# Altium footprint library WR-DC.PcbLib: 12 footprints
Each footprint in its own frame and in the unit in brackets; x right, y up, seen from the top. Pads: shape width x height; smd on the part's side, far side on the other; paste and mask are expansions set on the pad; w line width, h text height; cw(c..) or ccw(c..) is an arc to the next point about the centre after c.
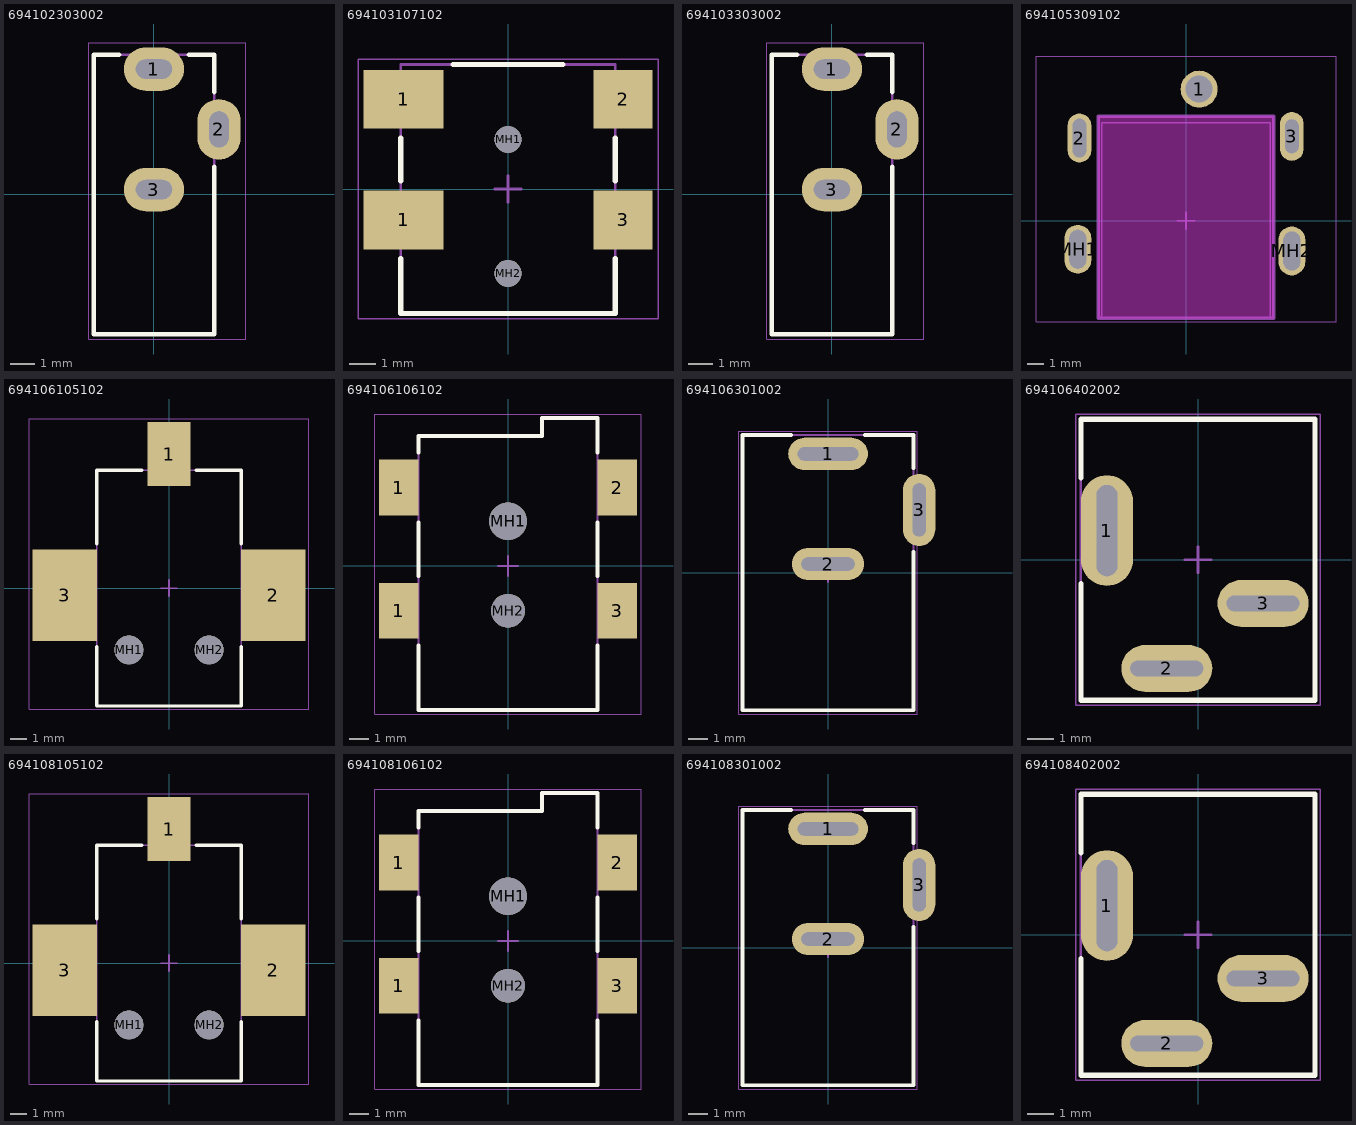
[diagram p0: the footprints below, top view; thin cyan lines are the x and y axes]

## 694102303002 [mm] "DC Power Jack Right Angled THR"
height 7.5
pads (3):
  oval 2.5x1.8 hole 0.8 slot 1.5 at 0 deg: 1(0,5.2) 3(0,0.2)
  oval 1.8x2.5 hole 0.8 slot 1.5 at 90 deg: 2(2.7,2.7)
Top Overlay:
  lines w0.2: -1.45,5.8 -2.5,5.8 -2.5,-5.8 2.5,-5.8 2.5,1.15 ; 1.45,5.8 2.5,5.8 2.5,4.25
Top Assembly:
  lines w0.1: -2.5,-5.8 2.5,-5.8 2.5,5.8 -2.5,5.8 -2.5,-5.8
Top Designator:
  text ".Designator" at -3.647,-0.357 h1
Top 3D Body:
  lines w0.1: -2.5,-5.8 2.5,-5.8 2.5,5.8 -2.5,5.8 -2.5,-5.8
Top Courtyard:
  lines w0.05: -2.7,-6 3.8,-6 3.8,6.3 -2.7,6.3 -2.7,-6
Top Component Center:
  lines w0.1: -0.5,0 0.5,0 ; 0,-0.5 0,0.5
3D body "694102303002.stp": height 7.52, standoff -3.08, extent -2.5,-5.8 2.9,5.8

## 694103107102 [mm] "DC Power Jack Right Angled SMT Low Profile"
height 5.2
pads (6):
  rect 3x2.2 smd: 1(-3.9,-1.15) 1(-3.9,3.35)
  rect 2.2x2.2 smd: 2(4.3,3.35) 3(4.3,-1.15)
  round 1 hole 1 unplated: MH1(0,1.85) MH2(0,-3.15)
Top Overlay:
  lines w0.2: -4,-2.6 -4,-4.65 4,-4.65 4,-2.6 ; -4,0.3 -4,1.9 ; -2.05,4.65 2.05,4.65 ; 4,0.3 4,1.9
Top Assembly:
  lines w0.1: -4,-4.65 -4,4.65 4,4.65 4,-4.65 -4,-4.65
Top Designator:
  text ".Designator" at -3.647,-0.357 h1
Top 3D Body:
  lines w0.1: -4,-4.65 -4,4.65 4,4.65 4,-4.65 -4,-4.65
Top Courtyard:
  lines w0.05: -5.6,-4.85 5.6,-4.85 5.6,4.85 -5.6,4.85 -5.6,-4.85
Top Component Center:
  lines w0.1: -0.5,0 0.5,0 ; 0,-0.5 0,0.5
3D body "694103107102.stp": height 5.22, standoff -0.78, extent -4.95,-4.65 4.95,4.65

## 694103303002 [mm] "DC Power Jack Right Angled THR"
height 7.5
pads (3):
  oval 2.5x1.8 hole 0.8 slot 1.5 at 0 deg: 1(0,5.2) 3(0,0.2)
  oval 1.8x2.5 hole 0.8 slot 1.5 at 90 deg: 2(2.7,2.7)
Top Overlay:
  lines w0.2: -1.45,5.8 -2.5,5.8 -2.5,-5.8 2.5,-5.8 2.5,1.15 ; 1.45,5.8 2.5,5.8 2.5,4.25
Top Assembly:
  lines w0.1: -2.5,-5.8 2.5,-5.8 2.5,5.8 -2.5,5.8 -2.5,-5.8
Top Designator:
  text ".Designator" at -3.647,-0.357 h1
Top 3D Body:
  lines w0.1: -2.5,-5.8 2.5,-5.8 2.5,5.8 -2.5,5.8 -2.5,-5.8
Top Courtyard:
  lines w0.05: -2.7,-6 3.8,-6 3.8,6.3 -2.7,6.3 -2.7,-6
Top Component Center:
  lines w0.1: -0.5,0 0.5,0 ; 0,-0.5 0,0.5
3D body "694103303002.stp": height 7.52, standoff -3.08, extent -2.5,-5.8 2.9,5.8

## 694105309102 [mm] "DC Power Jack Right Angled Shielded THR"
height 9.1
pads (5):
  round 2.2 hole 1.6: 1(0.78,7.8)
  oval 1.4x2.9 hole 0.8 slot 2.3 at 90 deg: 2(-6.32,4.9)
  oval 1.4x2.9 hole 0.8 slot 2 at 90 deg: 3(6.28,5)
  oval 1.6x2.9 hole 1 slot 2.3 at 90 deg: MH1(-6.42,-1.7) MH2(6.28,-1.8)
Top Paste:
  region: 8.66,-5.45 5.36,-5.45 5.36,2.55 8.66,2.55
  region: -8.7,-5.35 -5.4,-5.35 -5.4,2.65 -8.7,2.65
  region: -1.85,9.55 3.55,9.55 3.55,6.55 -1.85,6.55
  region: 8.61,3.3 5.31,3.3 5.31,8.3 8.61,8.3
  region: -8.65,3.1 -5.35,3.1 -5.35,9.5 -8.65,9.5
Keep-Out Layer:
  board cut-out: -5.2,-5.8 -5.2,6.2 5.2,6.2 5.2,-5.8
Board Shape:
  lines w0.2: -5.2,-5.8 -5.2,6.2 5.2,6.2 5.2,-5.8 -5.2,-5.8
Top Assembly:
  lines w0.1: -5,-5.8 -5,5.8 5,5.8 5,-5.8 -5,-5.8
Top Designator:
  text ".Designator" at -3.647,-0.357 h1
Top 3D Body:
  lines w0.1: -5,-5.8 -5,5.8 5,5.8 5,-5.8 -5,-5.8
Top Courtyard:
  lines w0.05: -8.9,-6 -8.9,9.75 8.9,9.75 8.9,-6 -8.9,-6
Top Component Center:
  lines w0.1: -0.5,0 0.5,0 ; 0,-0.5 0,0.5
3D body "694105309102.stp": height 5.55, standoff -3.55, extent -6.45,-5.8 6.55,8.31

## 694106105102 [mm] "DC Power Jack Right Angled SMT"
height 11
pads (5):
  rect 2.7x4 smd: 1(0,8.35)
  rect 4x5.7 smd: 2(6.5,-0.45) 3(-6.5,-0.45)
  round 1.8 hole 1.8 unplated: MH1(-2.5,-3.85) MH2(2.5,-3.85)
Top Overlay:
  lines w0.2: -4.5,-3.65 -4.5,-7.35 4.5,-7.35 4.5,-3.65 ; -4.5,2.75 -4.5,7.35 -1.7,7.35 ; 1.7,7.35 4.5,7.35 4.5,2.75
Top Assembly:
  lines w0.1: -4.5,-7.35 -4.5,7.35 4.5,7.35 4.5,-7.35 -4.5,-7.35
Top Designator:
  text ".Designator" at -3.647,-0.357 h1
Top 3D Body:
  lines w0.1: -4.5,-7.35 -4.5,7.35 4.5,7.35 4.5,-7.35 -4.5,-7.35
Top Courtyard:
  lines w0.05: -8.7,-7.55 -8.7,10.55 8.7,10.55 8.7,-7.55 -8.7,-7.55
Top Component Center:
  lines w0.1: -0.5,0 0.5,0 ; 0,-0.5 0,0.5
3D body "694106105102.stp": height 11.05, standoff -1.95, extent -7.52,-7.375 7.28,9.725

## 694106106102 [mm] "DC Power Jack Right Angled SMT"
height 11
pads (6):
  rect 2x2.8 smd: 1(-5.5,-2.25) 1(-5.5,3.95) 2(5.5,3.95) 3(5.5,-2.25)
  round 1.9 hole 1.9 unplated: MH1(0,2.25)
  round 1.7 hole 1.7 unplated: MH2(0,-2.25)
Top Overlay:
  lines w0.2: -4.5,-4 -4.5,-7.25 4.5,-7.25 4.5,-4 ; -4.5,-0.5 -4.5,2.2 ; -4.5,5.7 -4.5,6.55 1.7,6.55 1.7,7.45 4.5,7.45 4.5,5.7 ; 4.5,-0.5 4.5,2.2
Top Assembly:
  lines w0.1: -4.5,-7.25 4.5,-7.25 4.5,7.45 1.7,7.45 1.7,6.55 -4.5,6.55 -4.5,-7.25
Top Designator:
  text ".Designator" at -3.647,-0.357 h1
Top 3D Body:
  lines w0.1: -4.5,-7.25 -4.5,6.55 1.7,6.55 1.7,7.45 4.5,7.45 4.5,-7.25 -4.5,-7.25
Top Courtyard:
  lines w0.05: -6.7,-7.45 -6.7,7.65 6.7,7.65 6.7,-7.45 -6.7,-7.45
Top Component Center:
  lines w0.1: -0.5,0 0.5,0 ; 0,-0.5 0,0.5
3D body "694106106102.stp": height 11.05, standoff -1.15, extent -6.25,-7.25 6.25,7.45

## 694106301002 [mm] "DC Power Jack Right Angled THR"
height 10.7
pads (3):
  oval 4.2x1.7 hole 0.7 slot 3.2 at 0 deg: 1(0,6.25)
  oval 3.8x1.7 hole 0.7 slot 2.8 at 0 deg: 2(0,0.45)
  oval 1.7x3.8 hole 0.7 slot 2.8 at 90 deg: 3(4.8,3.3)
Top Overlay:
  lines w0.2: -1.95,7.25 -4.5,7.25 -4.5,-7.25 4.5,-7.25 4.5,1.1 ; 1.95,7.25 4.5,7.25 4.5,5.5
Top Assembly:
  lines w0.1: -4.5,-7.25 4.5,-7.25 4.5,7.25 -4.5,7.25 -4.5,-7.25
Top Designator:
  text ".Designator" at -3.647,-0.357 h1
Top 3D Body:
  lines w0.1: -4.5,-7.25 4.5,-7.25 4.5,7.25 -4.5,7.25 -4.5,-7.25
Top Courtyard:
  lines w0.05: -4.7,-7.45 4.7,-7.45 4.7,7.45 -4.7,7.45 -4.7,-7.45
Top Component Center:
  lines w0.1: -0.5,0 0.5,0 ; 0,-0.5 0,0.5
3D body "694106301002.stp": height 10.72, standoff -3.87, extent -4.5,-7.25 5,7.25

## 694106402002 [mm] "DC Power Jack Vertical THR"
height 14
pads (3):
  oval 2x4.25 hole 0.8 slot 3.5 at 90 deg: 1(-3.5,1.12)
  oval 3.5x1.8 hole 0.6 slot 2.8 at 0 deg: 2(-1.2,-4.18) 3(2.5,-1.68)
Top Overlay:
  lines w0.2: -4.5,-0.91 -4.5,-5.4 4.5,-5.4 4.5,5.4 -4.5,5.4 -4.5,3.15
Top Assembly:
  lines w0.1: -4.5,-5.4 -4.5,5.4 4.5,5.4 4.5,-5.4 -4.5,-5.4
Top Designator:
  text ".Designator" at -3.647,-0.357 h1
Top 3D Body:
  lines w0.1: -4.5,-5.4 -4.5,5.4 4.5,5.4 4.5,-5.4 -4.5,-5.4
Top Courtyard:
  lines w0.05: -4.7,-5.6 -4.7,5.6 4.7,5.6 4.7,-5.6 -4.7,-5.6
Top Component Center:
  lines w0.1: -0.5,0 0.5,0 ; 0,-0.5 0,0.5
3D body "694106402002.stp": height 14.05, standoff -3.55, extent -4.5,-5.4 4.5,5.4

## 694108105102 [mm] "DC Power Jack Right Angled SMT"
height 11
pads (5):
  rect 2.7x4 smd: 1(0,8.35)
  rect 4x5.7 smd: 2(6.5,-0.45) 3(-6.5,-0.45)
  round 1.8 hole 1.8 unplated: MH1(-2.5,-3.85) MH2(2.5,-3.85)
Top Overlay:
  lines w0.2: -4.5,-3.65 -4.5,-7.35 4.5,-7.35 4.5,-3.65 ; -4.5,2.75 -4.5,7.35 -1.7,7.35 ; 1.7,7.35 4.5,7.35 4.5,2.75
Top Assembly:
  lines w0.1: -4.5,-7.35 -4.5,7.35 4.5,7.35 4.5,-7.35 -4.5,-7.35
Top Designator:
  text ".Designator" at -3.647,-0.357 h1
Top 3D Body:
  lines w0.1: -4.5,-7.35 -4.5,7.35 4.5,7.35 4.5,-7.35 -4.5,-7.35
Top Courtyard:
  lines w0.05: -8.7,-7.55 -8.7,10.55 8.7,10.55 8.7,-7.55 -8.7,-7.55
Top Component Center:
  lines w0.1: -0.5,0 0.5,0 ; 0,-0.5 0,0.5
3D body "694108105102.stp": height 11.05, standoff -1.95, extent -7.5,-7.35 7.3,9.75

## 694108106102 [mm] "DC Power Jack Right Angled SMT"
height 11
pads (6):
  rect 2x2.8 smd: 1(-5.5,-2.25) 1(-5.5,3.95) 2(5.5,3.95) 3(5.5,-2.25)
  round 1.9 hole 1.9 unplated: MH1(0,2.25)
  round 1.7 hole 1.7 unplated: MH2(0,-2.25)
Top Overlay:
  lines w0.2: -4.5,-4 -4.5,-7.25 4.5,-7.25 4.5,-4 ; -4.5,-0.5 -4.5,2.2 ; -4.5,5.7 -4.5,6.55 1.7,6.55 1.7,7.45 4.5,7.45 4.5,5.7 ; 4.5,-0.5 4.5,2.2
Top Assembly:
  lines w0.1: -4.5,-7.25 4.5,-7.25 4.5,7.45 1.7,7.45 1.7,6.55 -4.5,6.55 -4.5,-7.25
Top Designator:
  text ".Designator" at -3.647,-0.357 h1
Top 3D Body:
  lines w0.1: -4.5,-7.25 -4.5,6.55 1.7,6.55 1.7,7.45 4.5,7.45 4.5,-7.25 -4.5,-7.25
Top Courtyard:
  lines w0.05: -6.7,-7.45 -6.7,7.65 6.7,7.65 6.7,-7.45 -6.7,-7.45
Top Component Center:
  lines w0.1: -0.5,0 0.5,0 ; 0,-0.5 0,0.5
3D body "694108106102.stp": height 11.05, standoff -1.15, extent -6.25,-7.25 6.25,7.45

## 694108301002 [mm] "DC Power Jack Right Angled THR"
height 10.7
pads (3):
  oval 4.2x1.7 hole 0.7 slot 3.2 at 0 deg: 1(0,6.25)
  oval 3.8x1.7 hole 0.7 slot 2.8 at 0 deg: 2(0,0.45)
  oval 1.7x3.8 hole 0.7 slot 2.8 at 90 deg: 3(4.8,3.3)
Top Overlay:
  lines w0.2: -1.95,7.25 -4.5,7.25 -4.5,-7.25 4.5,-7.25 4.5,1.1 ; 1.95,7.25 4.5,7.25 4.5,5.5
Top Assembly:
  lines w0.1: -4.5,-7.25 -4.5,7.25 4.5,7.25 4.5,-7.25 -4.5,-7.25
Top Designator:
  text ".Designator" at -3.647,-0.357 h1
Top 3D Body:
  lines w0.1: -4.5,-7.25 -4.5,7.25 4.5,7.25 4.5,-7.25 -4.5,-7.25
Top Courtyard:
  lines w0.05: -4.7,-7.45 -4.7,7.45 4.7,7.45 4.7,-7.45 -4.7,-7.45
Top Component Center:
  lines w0.1: -0.5,0 0.5,0 ; 0,-0.5 0,0.5
3D body "694108301002.stp": height 10.72, standoff -3.87, extent -4.5,-7.25 5,7.25

## 694108402002 [mm] "DC Power Jack Vertical THR"
height 14
pads (3):
  oval 2x4.25 hole 0.8 slot 3.5 at 90 deg: 1(-3.5,1.12)
  oval 3.5x1.8 hole 0.6 slot 2.8 at 0 deg: 2(-1.2,-4.18) 3(2.5,-1.68)
Top Overlay:
  lines w0.2: -4.5,-0.91 -4.5,-5.4 4.5,-5.4 4.5,5.4 -4.5,5.4 -4.5,3.15
Top Assembly:
  lines w0.1: -4.5,-5.4 -4.5,5.4 4.5,5.4 4.5,-5.4 -4.5,-5.4
Top Designator:
  text ".Designator" at -3.647,-0.357 h1
Top 3D Body:
  lines w0.1: -4.5,-5.4 -4.5,5.4 4.5,5.4 4.5,-5.4 -4.5,-5.4
Top Courtyard:
  lines w0.05: -4.7,-5.6 -4.7,5.6 4.7,5.6 4.7,-5.6 -4.7,-5.6
Top Component Center:
  lines w0.1: -0.5,0 0.5,0 ; 0,-0.5 0,0.5
3D body "694108402002.stp": height 14.05, standoff -3.55, extent -4.5,-5.4 4.5,5.4